# EAGLE library part PIC24FVXXKA304 (library MCUs)
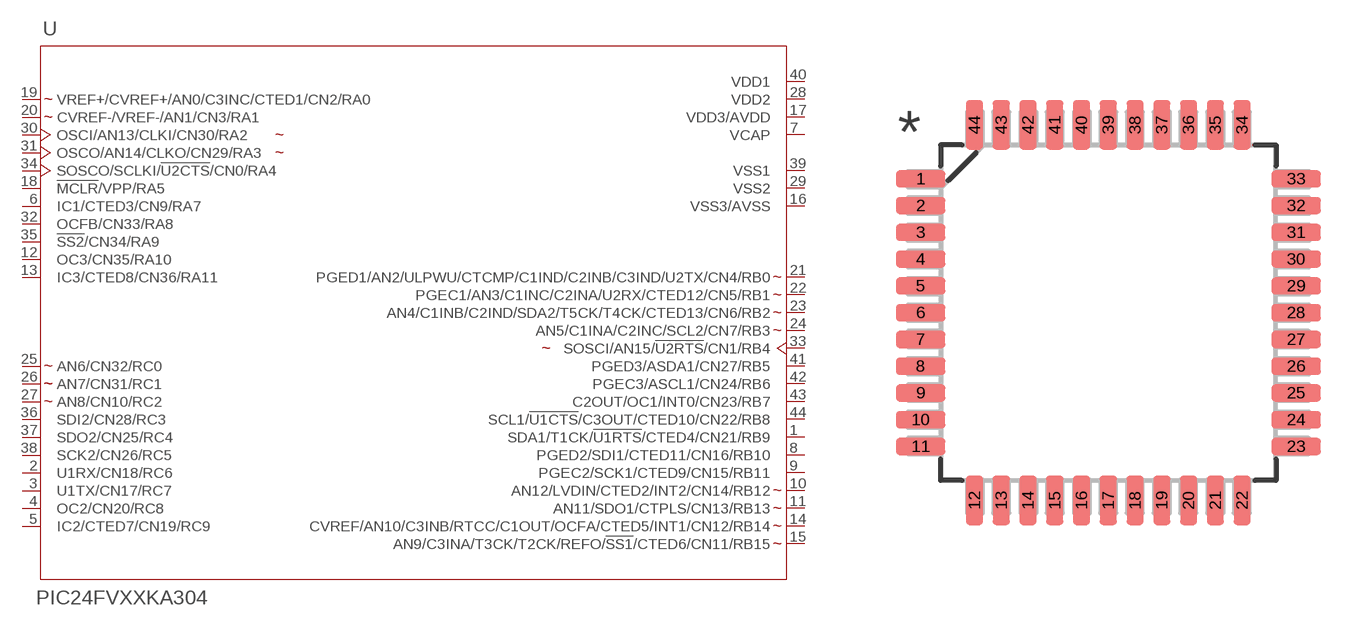
[diagram p1: symbol with the pads of TQFP-44; footprint TQFP-44]

Designator prefix U

## PIC24FVXXKA304-X/PT  [TQFP-44]
1  SDA1/T1CK/!U1RTS!/CTED4/CN21/RB9  pas
2  U1RX/CN18/RC6  pas
3  U1TX/CN17/RC7  pas
4  OC2/CN20/RC8  pas
5  IC2/CTED7/CN19/RC9  pas
6  IC1/CTED3/CN9/RA7  pas
7  VCAP  pas
8  PGED2/SDI1/CTED11/CN16/RB10  pas
9  PGEC2/SCK1/CTED9/CN15/RB11  pas
10  AN12/LVDIN/CTED2/INT2/CN14/RB12  pas
11  AN11/SDO1/CTPLS/CN13/RB13  pas
12  OC3/CN35/RA10  pas
13  IC3/CTED8/CN36/RA11  pas
14  CVREF/AN10/C3INB/RTCC/C1OUT/OCFA/CTED5/INT1/CN12/RB14  pas
15  AN9/C3INA/T3CK/T2CK/REFO/!SS1!/CTED6/CN11/RB15  pas
16  VSS3/AVSS  pas
17  VDD3/AVDD  pas
18  !MCLR!/VPP/RA5  pas
19  VREF+/CVREF+/AN0/C3INC/CTED1/CN2/RA0  pas
20  CVREF-/VREF-/AN1/CN3/RA1  pas
21  PGED1/AN2/ULPWU/CTCMP/C1IND/C2INB/C3IND/U2TX/CN4/RB0  pas
22  PGEC1/AN3/C1INC/C2INA/U2RX/CTED12/CN5/RB1  pas
23  AN4/C1INB/C2IND/SDA2/T5CK/T4CK/CTED13/CN6/RB2  pas
24  AN5/C1INA/C2INC/SCL2/CN7/RB3  pas
25  AN6/CN32/RC0  pas
26  AN7/CN31/RC1  pas
27  AN8/CN10/RC2  pas
28  VDD2  pas
29  VSS2  pas
30  OSCI/AN13/CLKI/CN30/RA2  pas
31  OSCO/AN14/CLKO/CN29/RA3  pas
32  OCFB/CN33/RA8  pas
33  SOSCI/AN15/!U2RTS!/CN1/RB4  pas
34  SOSCO/SCLKI/!U2CTS!/CN0/RA4  pas
35  !SS2!/CN34/RA9  pas
36  SDI2/CN28/RC3  pas
37  SDO2/CN25/RC4  pas
38  SCK2/CN26/RC5  pas
39  VSS1  pas
40  VDD1  pas
41  PGED3/ASDA1/CN27/RB5  pas
42  PGEC3/ASCL1/CN24/RB6  pas
43  C2OUT/OC1/INT0/CN23/RB7  pas
44  SCL1/!U1CTS!/C3OUT/CTED10/CN22/RB8  pas

## Footprint TQFP-44 (pad centres in mm)
smd 1.473 x 0.508: 1 -5.613,4; 2 -5.613,3.2; 3 -5.613,2.4; 4 -5.613,1.6; 5 -5.613,0.8; 6 -5.613,0; 7 -5.613,-0.8; 8 -5.613,-1.6; 9 -5.613,-2.4; 10 -5.613,-3.2; 11 -5.613,-4; 23 5.613,-4; 24 5.613,-3.2; 25 5.613,-2.4; 26 5.613,-1.6; 27 5.613,-0.8; 28 5.613,0; 29 5.613,0.8; 30 5.613,1.6; 31 5.613,2.4; 32 5.613,3.2; 33 5.613,4
smd 0.508 x 1.473: 12 -4,-5.613; 13 -3.2,-5.613; 14 -2.4,-5.613; 15 -1.6,-5.613; 16 -0.8,-5.613; 17 0,-5.613; 18 0.8,-5.613; 19 1.6,-5.613; 20 2.4,-5.613; 21 3.2,-5.613; 22 4,-5.613; 34 4,5.613; 35 3.2,5.613; 36 2.4,5.613; 37 1.6,5.613; 38 0.8,5.613; 39 0,5.613; 40 -0.8,5.613; 41 -1.6,5.613; 42 -2.4,5.613; 43 -3.2,5.613; 44 -4,5.613